# EAGLE library part MC7-G (library con-phoenix-381_l)
Mini-Combicon 3.81mm horizontal 7-polig MC 1,5/7-G-3,81 Artikel-Nr. 1803329 mit Gegenstecker MC 1,5/7-ST-3,81 Artikel-Nr. 1803620
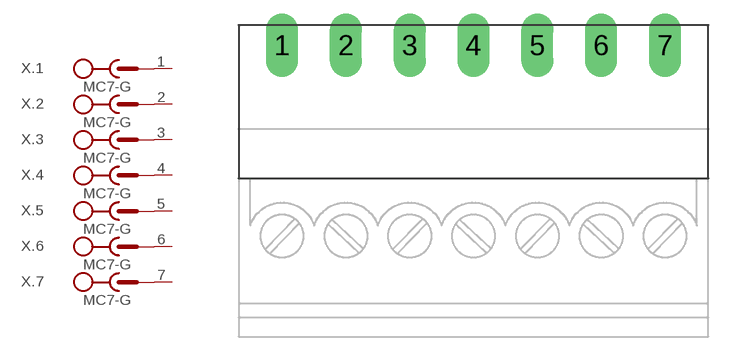
[diagram p14: symbol with the pads of MC7-G; footprint MC7-G]

Designator prefix X; gates .1=SK+V .2=SK+V .3=SK+V .4=SK+V .5=SK+V .6=SK+V .7=SK+V

## MC7-G  [MC7-G]
1  .1:SK  pas
2  .2:SK  pas
3  .3:SK  pas
4  .4:SK  pas
5  .5:SK  pas
6  .6:SK  pas
7  .7:SK  pas

## Footprint MC7-G (pad centres in mm)
Mini-Combicon 3.81mm horizontal 7-polig MC 1,5/7-G-3,81 Artikel-Nr. 1803329 mit Gegenstecker MC 1,5/7-ST-3,81 Artikel-Nr. 1803620
drill 1.27 long: 1 -11.43,0; 2 -7.62,0; 3 -3.81,0; 4 0,0; 5 3.81,0; 6 7.62,0; 7 11.43,0